# Altium footprint library 封装库.PcbLib: 324 footprints (part 18 of 21)
Each footprint in its own frame and in the unit in brackets; x right, y up, seen from the top. Pads: shape width x height; smd on the part's side, far side on the other; paste and mask are expansions set on the pad; w line width, h text height; cw(c..) or ccw(c..) is an arc to the next point about the centre after c.
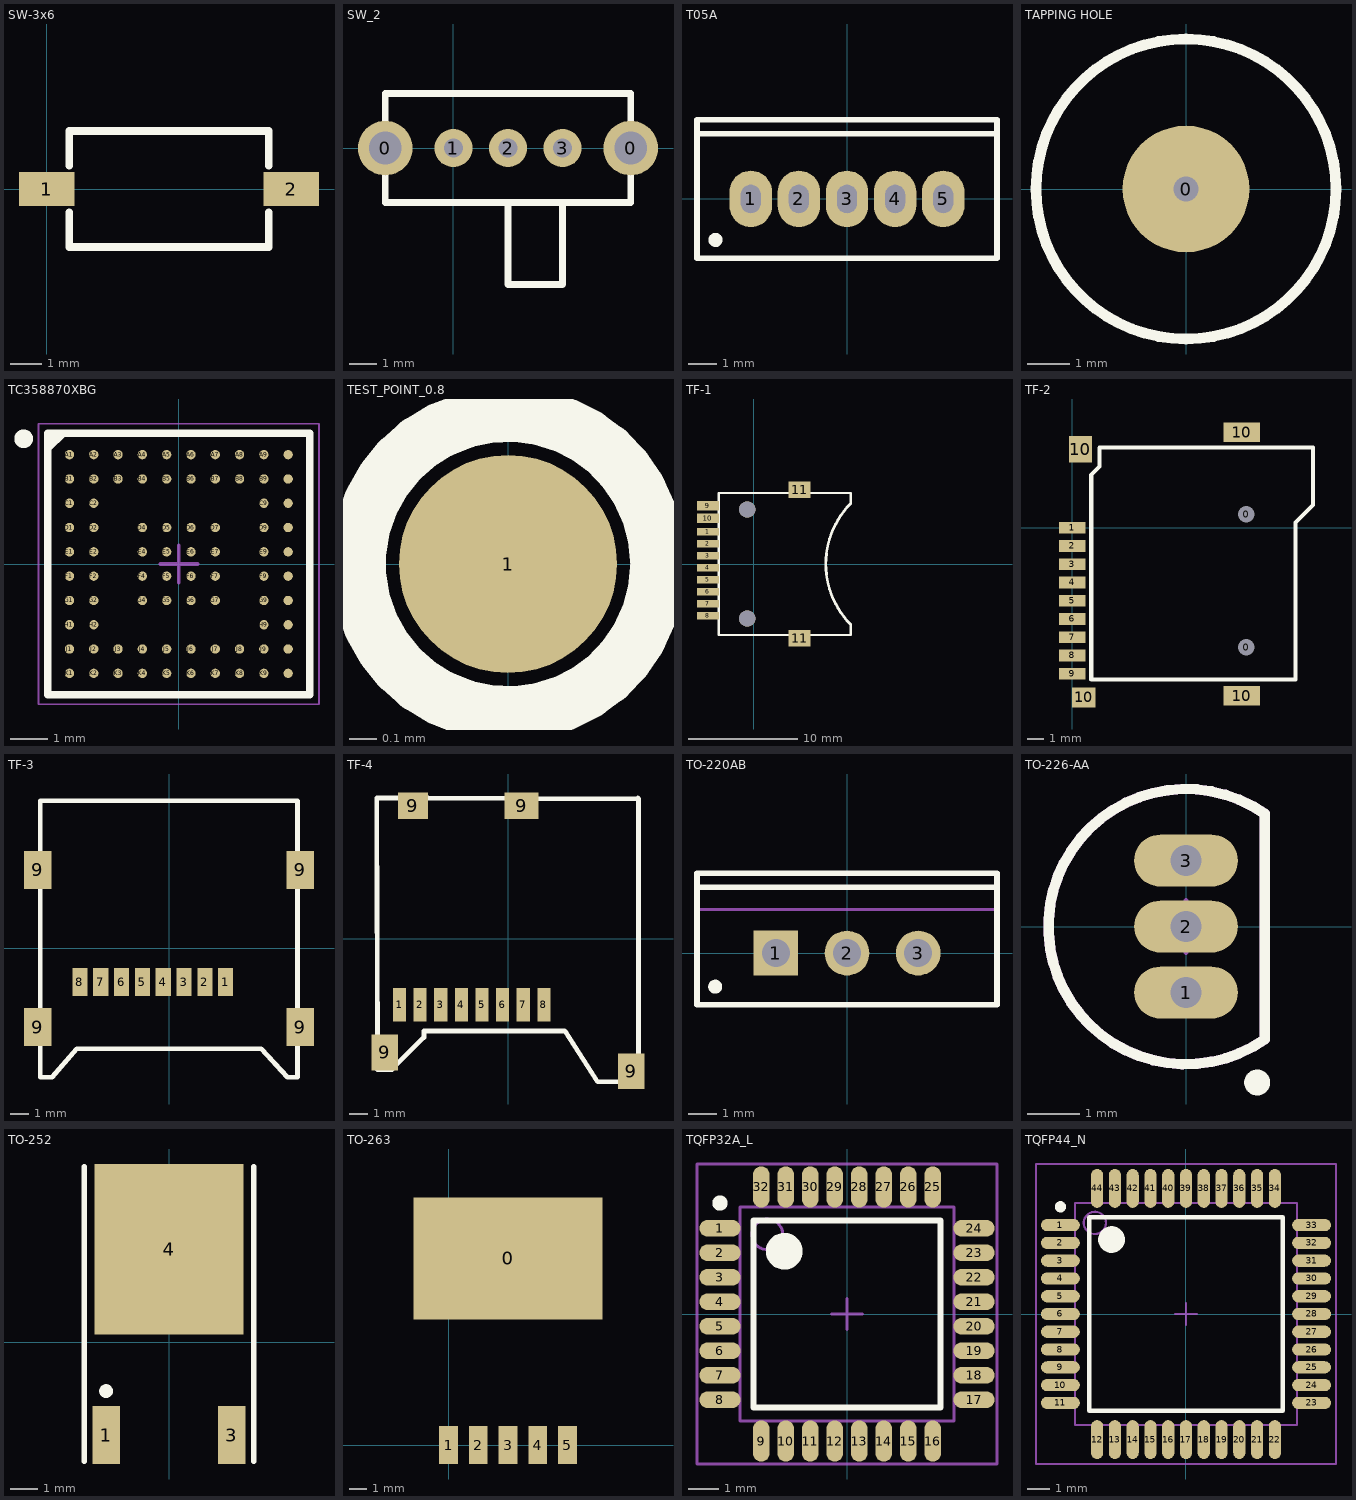
[diagram p17: the footprints below, top view; thin cyan lines are the x and y axes]

## SW-3x6 [mm] "3x6x2.5mm"
height 2
pads (2):
  rect 1.8x1.1 smd: 1(0,0) 2(7.9,0)
Top Overlay:
  lines w0.254: 0.725,-0.76 0.725,-1.875 7.175,-1.875 7.175,-0.76 ; 0.725,0.76 0.725,1.875 7.175,1.875 7.175,0.76

## SW_2 [mm] "卧式两段拨动开关"
pads (5):
  round 2 hole 1.2 unplated: 0(-2.5,0) 0(6.5,0)
  round 1.4 hole 0.7 unplated: 1(0,0) 2(2,0) 3(4,0)
Top Overlay:
  lines w0.254: 2,-2 2,-5 4,-5 4,-2 ; -2.5,-2 6.5,-2 6.5,2 -2.5,2 -2.5,-2

## T05A [mm] "TO, Thru-Hole, Vertical, Heatsink Mounted; 5 In-Line Leads; Pitch 1.70 mm"
height 19.6
pads (5):
  oval 1.5x2 hole 0.7 slot 1 at 90 deg: 1(-3.4,0) 2(-1.7,0) 3(0,0) 4(1.7,0) 5(3.4,0)
Top Overlay:
  circle w0.25: c-4.65,-1.45 r0.125
  lines w0.2: -5.3,2.3 5.3,2.3 ; -5.3,-2.1 5.3,-2.1 5.3,2.8 -5.3,2.8 -5.3,-2.1
Mechanical 13:
  lines w0.1: -5.3,2.3 5.3,2.3 ; -5.3,-2.1 -5.3,2.8 5.3,2.8 5.3,-2.1 -5.3,-2.1 ; -3.91,-0.28 -3.91,0.28 -2.89,0.28 -2.89,-0.28 -3.91,-0.28 ; -2.21,-0.28 -2.21,0.28 -1.19,0.28 -1.19,-0.28 -2.21,-0.28 ; -0.51,-0.28 -0.51,0.28 0.51,0.28 0.51,-0.28 -0.51,-0.28 ; 1.19,-0.28 1.19,0.28 2.21,0.28 2.21,-0.28 1.19,-0.28 ; 2.89,-0.28 2.89,0.28 3.91,0.28 3.91,-0.28 2.89,-0.28
Mechanical 15:
  lines w0.1: -0.5,0 0.5,0 ; 0,-0.5 0,0.5
3D body: height 4.1, standoff 0, extent -0.509,-0.279 0.509,0.279
3D body: height 4.1, standoff 0, extent 2.891,-0.279 3.909,0.279
3D body: height 4.1, standoff 0, extent 1.191,-0.279 2.209,0.279
3D body: height 4.1, standoff 0, extent -2.209,-0.279 -1.191,0.279
3D body: height 4.1, standoff 0, extent -3.909,-0.279 -2.891,0.279
3D body: height 13, standoff 4.1, extent -5.35,-2.15 5.35,2.85
3D body: height 19.6, standoff 13, extent -5.299,2.301 5.299,2.799

## TAPPING HOLE [mm] "M3"
pads (1):
  round 3 hole 0.6: 0(0,0)
Top Overlay:
  circle w0.254: c0,0 r3.55

## TC358870XBG [mm] "BGA, 80-Leads, Body 7.00x7.00mmx1.00mm, Pitch 0.65mm"
height 1
pads (80):
  round 0.25 smd: A1(-2.925,2.925) A2(-2.275,2.925) A3(-1.625,2.925) A4(-0.975,2.925) A5(-0.325,2.925) A6(0.325,2.925) A7(0.975,2.925) A8(1.625,2.925) A9(2.275,2.925) A10(2.925,2.925) B1(-2.925,2.275) B2(-2.275,2.275) B3(-1.625,2.275) B4(-0.975,2.275) B5(-0.325,2.275) B6(0.325,2.275) B7(0.975,2.275) B8(1.625,2.275) B9(2.275,2.275) B10(2.925,2.275) C1(-2.925,1.625) C2(-2.275,1.625) C9(2.275,1.625) C10(2.925,1.625) D1(-2.925,0.975) D2(-2.275,0.975) D4(-0.975,0.975) D5(-0.325,0.975) D6(0.325,0.975) D7(0.975,0.975) D9(2.275,0.975) D10(2.925,0.975) E1(-2.925,0.325) E2(-2.275,0.325) E4(-0.975,0.325) E5(-0.325,0.325) E6(0.325,0.325) E7(0.975,0.325) E9(2.275,0.325) E10(2.925,0.325) F1(-2.925,-0.325) F2(-2.275,-0.325) F4(-0.975,-0.325) F5(-0.325,-0.325) F6(0.325,-0.325) F7(0.975,-0.325) F9(2.275,-0.325) F10(2.925,-0.325) G1(-2.925,-0.975) G2(-2.275,-0.975) G4(-0.975,-0.975) G5(-0.325,-0.975) G6(0.325,-0.975) G7(0.975,-0.975) G9(2.275,-0.975) G10(2.925,-0.975) H1(-2.925,-1.625) H2(-2.275,-1.625) H9(2.275,-1.625) H10(2.925,-1.625) J1(-2.925,-2.275) J2(-2.275,-2.275) J3(-1.625,-2.275) J4(-0.975,-2.275) J5(-0.325,-2.275) J6(0.325,-2.275) J7(0.975,-2.275) J8(1.625,-2.275) J9(2.275,-2.275) J10(2.925,-2.275) K1(-2.925,-2.925) K2(-2.275,-2.925) K3(-1.625,-2.925) K4(-0.975,-2.925) K5(-0.325,-2.925) K6(0.325,-2.925) K7(0.975,-2.925) K8(1.625,-2.925) K9(2.275,-2.925) K10(2.925,-2.925)
Top Overlay:
  circle w0.25: c-4.15,3.35 r0.125
  region: -3.092,3.5 -3.5,3.092 -3.5,3.5
  lines w0.2: -3.5,3.092 -3.092,3.5 ; -3.5,-3.5 3.5,-3.5 3.5,3.5 -3.5,3.5 -3.5,-3.5
Mechanical 13:
  lines w0.1: -3.5,-3.5 3.5,-3.5 3.5,3.5 -3.5,3.5 -3.5,-3.5
Mechanical 15:
  lines w0.05: -3.75,-3.75 3.75,-3.75 3.75,3.75 -3.75,3.75 -3.75,-3.75
  lines w0.1: -0.5,0 0.5,0 ; 0,-0.5 0,0.5
3D body: height 1, standoff 0.25, extent -3.5,-3.5 3.5,3.5

## TEST_POINT_0.8 [mm] "测试点"
pads (1):
  round 0.8 smd: 1(0,0)
Top Overlay:
  circle w0.203: c0,0 r0.55

## TF-1 [mm]
pads (14):
  rect 2x0.7 smd: 1(-4.2,2.95) 2(-4.2,1.85) 3(-4.2,0.75) 4(-4.2,-0.35) 5(-4.2,-1.45) 6(-4.2,-2.55) 7(-4.2,-3.65) 8(-4.2,-4.75)
  rect 2x0.85 smd: 9(-4.2,5.35) 10(-4.2,4.2)
  rect 2x1.5 smd: 11(4.2,-6.82) 11(4.2,6.82)
  round 1.5 hole 1.5 unplated: ""(-0.6,-5)
  round 1.5 hole 1.5: ""(-0.6,5)
Top Overlay:
  lines w0.2: 8.9,-5.55 8.9,-6.515 -3.2,-6.515 -3.2,6.515 8.9,6.515 8.9,5.55
  lines w0.254: 8.9,-5.55 cw(c14.45,0) 8.9,5.55

## TF-2 [mm]
pads (15):
  round 0.762 hole 1: 0(10.5,-7.2) 0(10.5,0.8)
  rect 1.6x0.7 smd: 1(0,0) 2(0,-1.1) 3(0,-2.2) 4(0,-3.3) 5(0,-4.4) 6(0,-5.5) 7(0,-6.6) 8(0,-7.7) 9(0,-8.8)
  rect 1.4x1.6 smd: 10(0.5,4.727)
  rect 1.4x1.2 smd: 10(0.703,-10.225)
  rect 2.2x1.2 smd: 10(10.227,-10.127) 10(10.227,5.754)
Top Overlay:
  lines w0.254: 1.143,-9.144 1.143,3.175 1.651,3.683 1.651,4.815 14.52,4.831 14.52,1.378 13.453,0.311 13.453,-9.144 1.143,-9.144
3D body "User Library-Micro SD.STEP": height 2, standoff -0.47, extent -0.732,-10.312 14.478,5.994

## TF-3 [mm]
pads (12):
  rect 0.8x1.5 smd: 1(2.993,-1.772) 2(1.893,-1.772) 3(0.793,-1.772) 4(-0.307,-1.772) 5(-1.407,-1.772) 6(-2.507,-1.772) 7(-3.607,-1.772) 8(-4.707,-1.772)
  rect 1.45x2 smd: 9(-6.925,-4.15) 9(-6.925,4.15) 9(6.925,-4.15) 9(6.925,4.15)
Top Overlay:
  lines w0.254: -6.805,-6.8 -6.805,7.8 6.795,7.8 6.795,-6.8 6.264,-6.8 4.865,-5.3 -4.875,-5.3 -6.182,-6.8 -6.805,-6.8

## TF-4 [mm]
pads (12):
  rect 0.7x1.8 smd: 1(-5.785,-3.525) 2(-4.685,-3.525) 3(-3.585,-3.525) 4(-2.485,-3.525) 5(-1.385,-3.525) 6(-0.285,-3.525) 7(0.815,-3.525) 8(1.915,-3.525)
  rect 1.4x1.9 smd: 9(-6.575,-6.075) 9(6.575,-7.075)
  rect 1.6x1.4 smd: 9(-5.075,7.075)
  rect 1.8x1.4 smd: 9(0.725,7.075)
Top Overlay:
  lines w0.254: -4.261,7.499 -7.004,7.499 ; 6.864,7.448 -7.004,7.499 ; 6.915,7.499 6.966,7.448 6.966,-7.64 ; 7.017,-7.589 6.966,-7.64 ; -7.004,7.499 -6.953,-6.979 -6.191,-6.979 -4.485,-5.273 -4.485,-4.925 2.935,-4.925 3.032,-4.925 4.781,-7.64 6.966,-7.64

## TO-220AB [mm] "TO, Thru-Hole, Vertical, Heatsink Mounted; 3 In-Line Leads; Pitch 2.54 mm"
height 19.3
pads (3):
  rect 1.6x1.6 hole 1: 1(-2.54,0)
  round 1.6 hole 1: 2(0,0) 3(2.54,0)
Top Overlay:
  circle w0.25: c-4.7,-1.2 r0.125
  lines w0.2: -5.35,2.35 5.35,2.35 ; -5.35,-1.85 5.35,-1.85 5.35,2.85 -5.35,2.85 -5.35,-1.85
Mechanical 13:
  lines w0.1: -5.35,1.55 5.35,1.55 ; -5.35,-1.85 -5.35,2.85 5.35,2.85 5.35,-1.85 -5.35,-1.85
Mechanical 15:
  lines w0.1: -0.5,0 0.5,0 ; 0,-0.5 0,0.5
3D body: height 19.3, standoff 12.9, extent -5.349,1.551 5.349,2.849
3D body: height 12.9, standoff 4, extent -5.4,-1.9 5.4,2.9

## TO-226-AA [mm] "TO, Flat Index; 3 In-Line, Axial Leads; Body Dia. 4.8mm; Leads 0.55 x 0.51 mm (max)"
height 5.33
pads (3):
  oval 2x1 hole 0.6: 1(0,-1.27) 2(0,0) 3(0,1.27)
Top Overlay:
  circle w0.25: c1.371,-3.003 r0.125
  lines w0.2: 1.52,-2.171 cw(c0,0) 1.52,2.171 1.52,-2.171
Mechanical 13:
  lines w0.2: 1.52,-2.171 cw(c0,0) 1.52,2.171 1.52,-2.171
Mechanical 15:
  lines w0.1: -0.5,0 0.5,0 ; 0,-0.5 0,0.5
3D body: height 5.33, standoff 0, extent -2.651,-2.661 1.52,2.661

## TO-252 [mm] "D-PAK/TO-252-AA; 3 Leads (1 Cropped); Body 10.1 (inc. leads) x 6.6 mm (LxW max)"
height 2.4
pads (3):
  rect 1x2.1 smd: 1(-2.285,-3.375) 3(2.285,-3.375)
  rect 5.4x6.2 smd: 4(0,3.375)
Top Overlay:
  circle w0.25: c-2.285,-1.775 r0.125
  lines w0.2: -3.085,-4.325 -3.085,6.375 ; 3.085,-4.325 3.085,6.375

## TO-263 [mm]
pads (6):
  rect 10.8x6.99 smd: 0(3.4,10.67)
  rect 1.07x2.16 smd: 1(0,0) 2(1.7,0) 3(3.4,0) 4(5.1,0) 5(6.8,0)

## TQFP32A_L [mm] "Thin QFP, 32-Leads, Body 7x7mm, Pitch 0.8mm, IPC High Density"
height 1.2
pads (32):
  oval 1.35x0.55 smd: 1(-4.15,2.8) 2(-4.15,2) 3(-4.15,1.2) 4(-4.15,0.4) 5(-4.15,-0.4) 6(-4.15,-1.2) 7(-4.15,-2) 8(-4.15,-2.8) 17(4.15,-2.8) 18(4.15,-2) 19(4.15,-1.2) 20(4.15,-0.4) 21(4.15,0.4) 22(4.15,1.2) 23(4.15,2) 24(4.15,2.8)
  oval 0.55x1.35 smd: 9(-2.8,-4.15) 10(-2,-4.15) 11(-1.2,-4.15) 12(-0.4,-4.15) 13(0.4,-4.15) 14(1.2,-4.15) 15(2,-4.15) 16(2.8,-4.15) 25(2.8,4.15) 26(2,4.15) 27(1.2,4.15) 28(0.4,4.15) 29(-0.4,4.15) 30(-1.2,4.15) 31(-2,4.15) 32(-2.8,4.15)
Top Overlay:
  circle w0.25: c-4.15,3.625 r0.125
  circle w0.6: c-2.05,2.05 r0.3
  lines w0.2: -3.05,-3.05 -3.05,3.05 3.05,3.05 3.05,-3.05 -3.05,-3.05
Mechanical 13:
  circle w0.1: c-2.6,2.6 r0.5
  lines w0.1: -3.5,-3.5 -3.5,3.5 3.5,3.5 3.5,-3.5 -3.5,-3.5
Mechanical 15:
  lines w0.1: -0.5,0 0.5,0 ; 0,-0.5 0,0.5 ; -4.9,-4.9 -4.9,4.9 4.9,4.9 4.9,-4.9 -4.9,-4.9
3D body: height 1.2, standoff 0, extent -3.5,-3.5 3.5,3.5

## TQFP44_N [mm] "44-Pin Plastic Thin Quad Flat Pack (TFQP44), IPC Medium Density"
height 1.2
pads (44):
  oval 1.75x0.55 smd: 1(-5.65,4) 2(-5.65,3.2) 3(-5.65,2.4) 4(-5.65,1.6) 5(-5.65,0.8) 6(-5.65,0) 7(-5.65,-0.8) 8(-5.65,-1.6) 9(-5.65,-2.4) 10(-5.65,-3.2) 11(-5.65,-4) 23(5.65,-4) 24(5.65,-3.2) 25(5.65,-2.4) 26(5.65,-1.6) 27(5.65,-0.8) 28(5.65,0) 29(5.65,0.8) 30(5.65,1.6) 31(5.65,2.4) 32(5.65,3.2) 33(5.65,4)
  oval 0.55x1.75 smd: 12(-4,-5.65) 13(-3.2,-5.65) 14(-2.4,-5.65) 15(-1.6,-5.65) 16(-0.8,-5.65) 17(0,-5.65) 18(0.8,-5.65) 19(1.6,-5.65) 20(2.4,-5.65) 21(3.2,-5.65) 22(4,-5.65) 34(4,5.65) 35(3.2,5.65) 36(2.4,5.65) 37(1.6,5.65) 38(0.8,5.65) 39(0,5.65) 40(-0.8,5.65) 41(-1.6,5.65) 42(-2.4,5.65) 43(-3.2,5.65) 44(-4,5.65)
Top Overlay:
  circle w0.6: c-3.35,3.35 r0.3
  circle w0.25: c-5.65,4.825 r0.125
  lines w0.2: -4.35,-4.35 4.35,-4.35 4.35,4.35 -4.35,4.35 -4.35,-4.35
Mechanical 13:
  circle w0.1: c-4.1,4.1 r0.5
  lines w0.1: -5,-5 5,-5 5,5 -5,5 -5,-5
Mechanical 15:
  lines w0.1: -0.5,0 0.5,0 ; 0,-0.5 0,0.5 ; -6.75,-6.75 6.75,-6.75 6.75,6.75 -6.75,6.75 -6.75,-6.75
3D body: height 1.2, standoff 0, extent -5,-5 5,5